# EAGLE library part TXS0108EPWR (library serial_interfaces)
IC 8BIT NON-INV TRANSLTR 20TSSOP
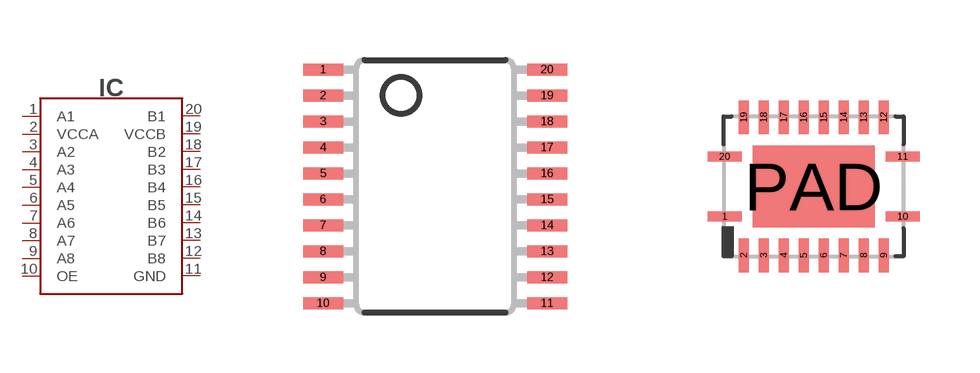
[diagram p32: symbol with the pads of TSSOP20; footprints TSSOP20, VQFN-20]

Designator prefix IC

## TXS0108EPWR-TSSOP20 (DIGIKEY#: 296-23011-1-ND; MANF: Texas Instruments; MANF#: TXS0108EPWR)  [TSSOP20]
1  A1
2  VCCA
3  A2
4  A3
5  A4
6  A5
7  A6
8  A7
9  A8
10  OE
11  GND
12  B8
13  B7
14  B6
15  B5
16  B4
17  B3
18  B2
19  VCCB
20  B1

## TXS0108EPWR-VQFN-20 (MANF: Texas Instruments; MANF#: TXS0108ERGY)  [VQFN-20]
1  A1
2  VCCA
3  A2
4  A3
5  A4
6  A5
7  A6
8  A7
9  A8
10  OE
11  GND
12  B8
13  B7
14  B6
15  B5
16  B4
17  B3
18  B2
19  VCCB
20  B1
PAD  GND

## Footprint TSSOP20 (pad centres in mm)
MOLDED TSSOP JEDEC, 5 x 4.4 x 9.9 mm Body 16 LD, 0.65mm Pitch Source: http://www.national.com/packaging/mkt/mtc16.pdf 3D model <https://grabcad.com/library/msop-and-tssop-packages-1>
smd 1 x 0.3: 1 -2.8,2.925; 2 -2.8,2.275; 3 -2.8,1.625; 4 -2.8,0.975; 5 -2.8,0.325; 6 -2.8,-0.325; 7 -2.8,-0.975; 8 -2.8,-1.625; 9 -2.8,-2.275; 10 -2.8,-2.925; 11 2.8,-2.925; 12 2.8,-2.275; 13 2.8,-1.625; 14 2.8,-0.975; 15 2.8,-0.325; 16 2.8,0.325; 17 2.8,0.975; 18 2.8,1.625; 19 2.8,2.275; 20 2.8,2.925

## Footprint VQFN-20 (pad centres in mm)
3D model <https://www.3dcontentcentral.com/download-model.aspx?catalogid=171&id=1529578>
smd 0.85 x 0.25: 1 -2.225,-0.75; 10 2.225,-0.75; 11 2.225,0.75; 20 -2.225,0.75
smd 0.25 x 0.85: 2 -1.75,-1.725; 3 -1.25,-1.725; 4 -0.75,-1.725; 5 -0.25,-1.725; 6 0.25,-1.725; 7 0.75,-1.725; 8 1.25,-1.725; 9 1.75,-1.725; 12 1.75,1.725; 13 1.25,1.725; 14 0.75,1.725; 15 0.25,1.725; 16 -0.25,1.725; 17 -0.75,1.725; 18 -1.25,1.725; 19 -1.75,1.725
smd 3.05 x 2.05: PAD 0,0